# Altium footprint library PMDU.PcbLib: 1 footprints
Each footprint in its own frame and in the unit in brackets; x right, y up, seen from the top. Pads: shape width x height; smd on the part's side, far side on the other; paste and mask are expansions set on the pad; w line width, h text height; cw(c..) or ccw(c..) is an arc to the next point about the centre after c.
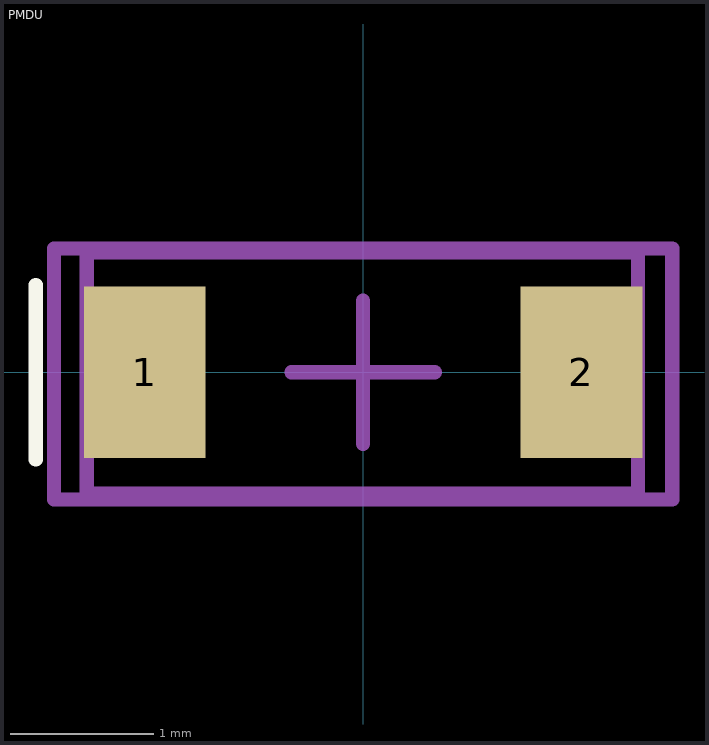
[diagram p0: the footprint, top view; thin cyan lines are the x and y axes]

## PMDU [mm]
height 0.8
pads (2):
  rect 0.85x1.2 smd: 1(-1.525,0) 2(1.525,0)
Top Overlay:
  lines w0.1: -2.286,-0.61 -2.286,0.61
Mechanical 13:
  lines w0.1: -1.93,-0.85 -1.93,0.838 1.92,0.838 1.92,-0.85 -1.93,-0.85
Mechanical 15:
  lines w0.1: -0.5,0 0.5,0 ; 0,-0.5 0,0.5 ; -2.159,-0.889 2.159,-0.889 2.159,0.864 -2.159,0.864 -2.159,-0.889
3D body: height 1.42, standoff -0.03, extent -1.93,-0.85 1.92,0.85